# EAGLE library part TC2030-MCP (library TC2030-MCP)
TC2030-MCP PCB FOOTPRINT,TC2030-MCP Source: Datasheet <http://ww1.microchip.com/downloads/en/DeviceDoc/TC2030-MCP_PCB_Footprint_RevD.pdf>
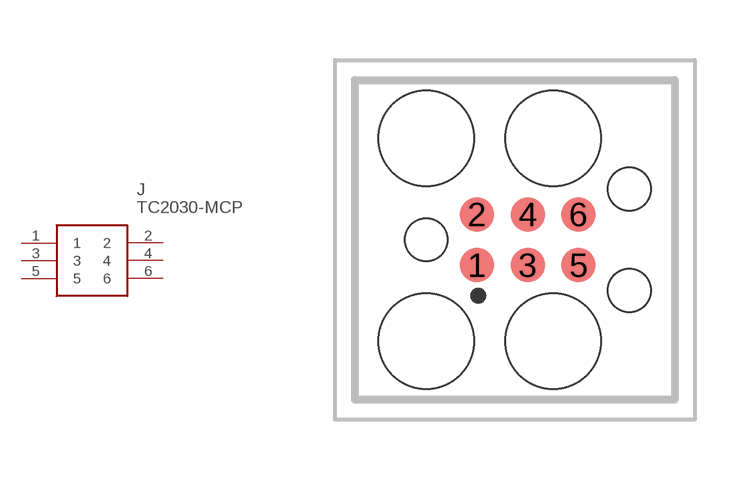
[diagram p0: symbol with the pads of TC2030MCP; footprint TC2030MCP]

Designator prefix J

## TC2030-MCP (Allied_Number: 70547380; Allied_Price-Stock: https://www.alliedelec.com/microchip-technology-inc-tc2030-mcp/70547380/; Description: TC2030-MCP PCB FOOTPRINT,TC2030-MCP; Height: 3mm; Manufacturer_Name: Microchip; Manufacturer_Part_Number: TC2030-MCP; Mouser_Part_Number: 579-TC2030-MCP; Mouser_Price-Stock: https://www.mouser.com/Search/Refine.aspx?Keyword=579-TC2030-MCP; RS_Part_Number: 8252568; RS_Price-Stock: http://uk.rs-online.com/web/p/products/8252568)  [TC2030MCP]
1  1
2  2
3  3
4  4
5  5
6  6

## Footprint TC2030MCP (pad centres in mm)
TC2030-MCP
smd 0.864 x 0.864: 1 -0.941,-0.635; 2 -0.941,0.635; 3 0.329,-0.635; 4 0.329,0.635; 5 1.599,-0.635; 6 1.599,0.635
hole 1.067 at -2.211,0
hole 1.067 at 2.869,1.27
hole 1.067 at 2.869,-1.27
hole 2.383 at -2.211,2.54
hole 2.383 at 0.964,2.54
hole 2.383 at -2.211,-2.54
hole 2.383 at 0.964,-2.54